# EAGLE library part 750811146 (library Midcom Inc - EAGLE Lib V2-0)
Package Style: EE20/10/6 Mounting: THT Pins: 10 pins Bobbin: 070-5248 Best pinouts for production vary per application. Please contact Wurth Electronics Midcom, Inc. for assistance with your custom design. Website: Wurth Electronics Midcom <http://www.we-online.com/midcom> Contact us Wurth Electronics Midcom, Inc. 121 Airport Dr. Watertown, SD 57201 Phone: (605) 886-4385 Fax: (605) 886-4486 E-Mail: midcom@we-online.com
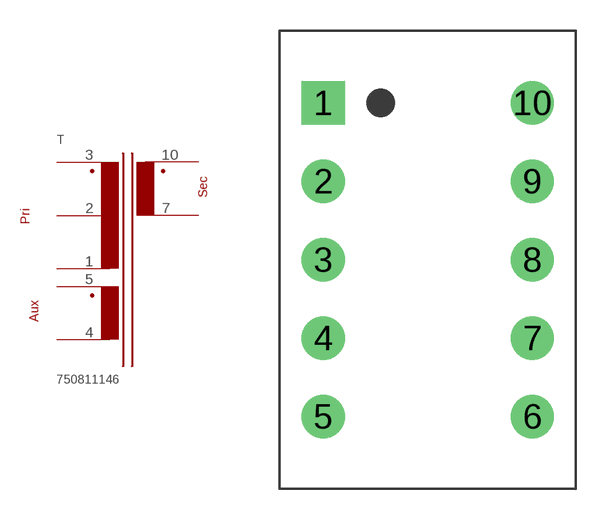
[diagram p314: symbol with the pads of EE20/10/6_THT_V_10PIN_(5248); footprint EE20/10/6_THT_V_10PIN_(5248)]

Designator prefix T

## 750811146  [EE20/10/6_THT_V_10PIN_(5248)]
1  1  pas
2  2  pas
3  3  pas
4  4  pas
5  5  pas
7  7  pas
10  10  pas

## Footprint EE20/10/6_THT_V_10PIN_(5248) (pad centres in mm)
Package Style: EE20/10/6 Mounting: THT Pins: 10 Bobbin: 070-5248
drill 1.397 square: 1 -5.08,7.62
drill 1.397: 2 -5.08,3.81; 3 -5.08,0; 4 -5.08,-3.81; 5 -5.08,-7.62; 6 5.08,-7.62; 7 5.08,-3.81; 8 5.08,0; 9 5.08,3.81; 10 5.08,7.62